# EAGLE library part 632712000112 (library 632723100011_Eagle_WR-USB_rev20d)
WR-COM USB 3.1 Type C Plug Horizontal 0.8 mm Kind Properties Durability:10 000 Mating cycles Gender:Plug Type:Horizontal General Information Operating Temperature:-40up to +85 °C Compliance:Lead free / RoHS Electrical Properties IR 1:5A Working Voltage:20V (DC) Withstanding Voltage:100V (AC) Contact Resistance:40 mΩ Material Properties Insulator Material:LCP Insulator Flammability Rating:UL94 V-0 Color:Black Contact Material:Copper Alloy Contact Plating:Gold over Nickel Contact Type:Stamped Shielding Material:Stainless Steel Shielding Plating:Nickel <https://www.we-online.com/catalog/media/o58986v209%20Family_WR-USB31_632712000112.jpg> Details see: https://www.we-online.com/catalog/en/COM_3_1_SMT_TYPE_C_PLUG_HORIZONTAL_0_8MM/ Updated by Ella Wu 2020-08-05 2020 (C) Würth Elektronik
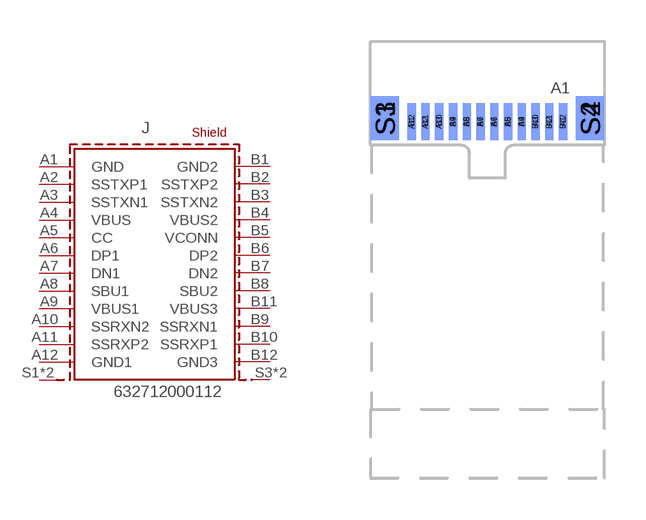
[diagram p25: symbol with the pads of 632712000112; footprint 632712000112]

Designator prefix J

## 632712000112 (APPLICATION: USB 3.1; DATASHEET-URL: https://www.we-online.com/catalog/datasheet/632712000112.pdf; GERDER: Plug; INTERFACE-TYPE: Type C; IR1: 5A; MOUNT: SMT; PACKAGING: Tray; PART-NUMBER: 632712000112; PINS: 24; TYPE: Horizontal; VALUE: 632712000112; WORKING-VOLTAGE: 20V(DC))  [632712000112]
A1  GND
A2  SSTXP1
A3  SSTXN1
A4  VBUS
A5  CC
A6  DP1
A7  DN1
A8  SBU1
A9  VBUS1
A10  SSRXN2
A11  SSRXP2
A12  GND1
B1  GND2
B2  SSTXP2
B3  SSTXN2
B4  VBUS2
B5  VCONN
B6  DP2
B7  DN2
B8  SBU2
B9  SSRXN1
B10  SSRXP1
B11  VBUS3
B12  GND3
S1  SHIELD
S2  SHIELD
S3  SHIELD1
S4  SHIELD1

## Footprint 632712000112 (pad centres in mm)
WR-COM USB 3.1 Type C Plug Horizontal 0.8 mm
smd 0.3 x 1.35: A1 2.75,4.675; A2 2.25,4.675; A3 1.75,4.675; A4 1.25,4.675; A5 0.75,4.675; A6 0.25,4.675; A7 -0.25,4.675; A8 -0.75,4.675; A9 -1.25,4.675; A10 -1.75,4.675; A11 -2.25,4.675; A12 -2.75,4.675
smd 0.3 x 1.35 bottom: B1 -2.75,4.675; B2 -2.25,4.675; B3 -1.75,4.675; B4 -1.25,4.675; B5 -0.75,4.675; B6 -0.25,4.675; B7 0.25,4.675; B8 0.75,4.675; B9 1.25,4.675; B10 1.75,4.675; B11 2.25,4.675; B12 2.75,4.675
smd 1.04 x 1.6: S1 -3.73,4.8; S2 3.73,4.8
smd 1.04 x 1.6 bottom: S3 -3.73,4.8; S4 3.73,4.8